# Altium integrated library C0805C104K5RACTU.IntLib: 1 symbol
Pins are listed as number, name and electrical type; pins without a type are passive.

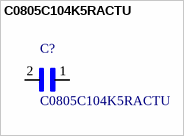
[diagram p0: symbol C0805C104K5RACTU]

## C0805C104K5RACTU
designator C?
/ Capacitor; Ceramic; Cap; .100UF ; Tol+-10%; SMD; Vol-Rtg 50V; X7R, Tape/Reel /; MF: KEMET; Package: 0805 Kemet; Availability: Unavailable; SnapEDA_Link: https://www.snapeda.com/parts/C0805C104K5RACTU/KEMET/view-part/?ref=snap; Price: None; MP: C0805C104K5RACTU; Value: *
footprint *CAPC2012X88N
pins: 1, 2